# EAGLE library part FDC6312P (library LAB-PPS330D)
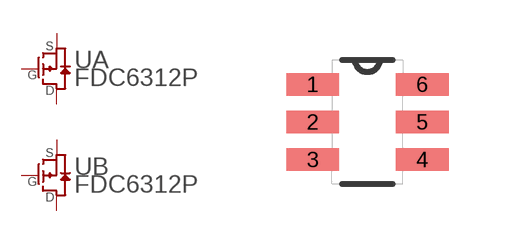
[diagram p0: symbol with the pads of SOT95P270X145-6N; footprint SOT95P270X145-6N]

Designator prefix -; gates A=PMOS B=PMOS

## FDC6312P  [SOT95P270X145-6N]
1  A:G
2  B:S
3  B:G
4  B:D
5  A:S
6  A:D

## Footprint SOT95P270X145-6N (pad centres in mm)
smd 1.321 x 0.559: 1 -1.372,0.94; 2 -1.372,0; 3 -1.372,-0.94; 4 1.372,-0.94; 5 1.372,0; 6 1.372,0.94